# Altium footprint library rcl@1.PCBLIB: 487 footprints (part 4 of 31)
Each footprint in its own frame and in the unit in brackets; x right, y up, seen from the top. Pads: shape width x height; smd on the part's side, far side on the other; paste and mask are expansions set on the pad; w line width, h text height; cw(c..) or ccw(c..) is an arc to the next point about the centre after c.
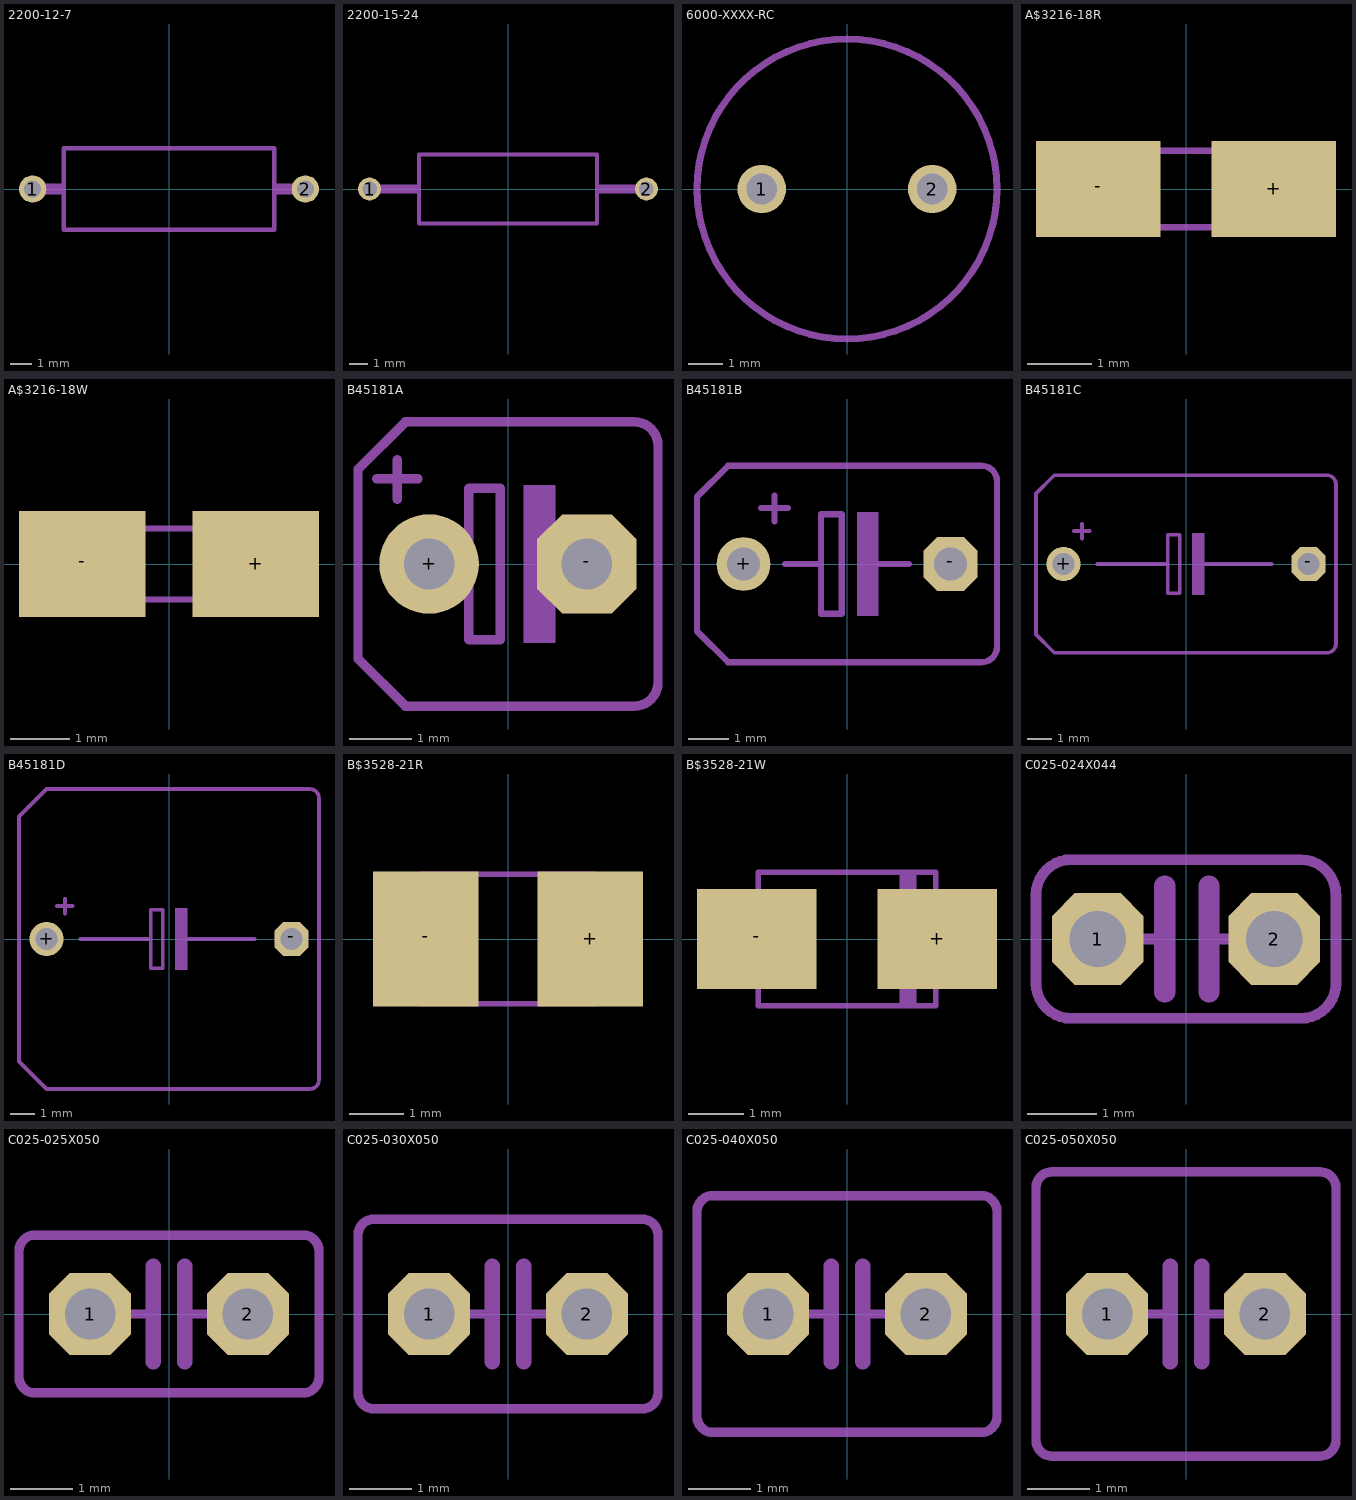
[diagram p3: the footprints below, top view; thin cyan lines are the x and y axes]

## 2200-12-7 [mil]
pads (2):
  round 50 hole 31.5: 1(-250,0) 2(250,0)
tDocu:
  lines w8: -192.91,-74.8 192.91,-74.8 192.91,74.8 -192.91,74.8 -192.91,-74.8
  lines w19.69: -250,0 -200,0 ; 200,0 250,0

## 2200-15-24 [mil]
pads (2):
  round 50 hole 31.5: 1(-300,0) 2(300,0)
tDocu:
  lines w8: -192.91,-74.8 192.91,-74.8 192.91,74.8 -192.91,74.8 -192.91,-74.8
  lines w19.69: -300,0 -200,0 ; 200,0 300,0

## 6000-XXXX-RC [mil]
pads (2):
  round 56 hole 35.43: 1(-98.43,0) 2(98.43,0)
tPlace:
  circle w8: c0,0 r173.23

## A$3216-18R [mil]
pads (2):
  rect 76.77x59.06 smd: +(54.13,0) -(-54.13,0)
tDocu:
  region: -62.99,-23.62 -62.99,23.62 -58.07,23.62 -58.07,-23.62
  region: 58.07,-23.62 58.07,23.62 62.99,23.62 62.99,-23.62
  region: 31.5,-24.61 31.5,24.61 43.31,24.61 43.31,-24.61
  lines w4: -57.09,-23.62 57.09,-23.62 57.09,23.62 -57.09,23.62 -57.09,-23.62

## A$3216-18W [mil]
pads (2):
  rect 84.65x70.87 smd: +(58.07,0) -(-58.07,0)
tDocu:
  region: -62.99,-23.62 -62.99,23.62 -58.07,23.62 -58.07,-23.62
  region: 58.07,-23.62 58.07,23.62 62.99,23.62 62.99,-23.62
  region: 31.5,-24.61 31.5,24.61 43.31,24.61 43.31,-24.61
  lines w4: -57.09,-23.62 57.09,-23.62 57.09,23.62 -57.09,23.62 -57.09,-23.62

## B45181A [mil]
pads (2):
  round 63 hole 32: +(-50,0)
  oct 63x63 / inner round 58.2 / far side oct 63x63 hole 32: -(50,0)
tDocu:
  region: 10,-50 10,50 30,50 30,-50
  lines w6: -65,0 -25,0 ; 25,0 65,0 ; -25,0 -25,-48 -5,-48 -5,48 -25,48 -25,0
tPlace:
  lines w6: -83,54 -57,54 ; -70,41 -70,66 ; -95,-60 -65,-90 80,-90 ccw(c80,-75) 95,-75 95,75 ccw(c80,75) 80,90 -65,90 -95,60 -95,-60

## B45181B [mil]
pads (2):
  round 52 hole 32: +(-100,0)
  oct 52x52 / inner round 48.04 / far side oct 52x52 hole 32: -(100,0)
tPlace:
  region: 10,-50 10,50 30,50 30,-50
  lines w6: -83,54 -57,54 ; -70,41 -70,66 ; -60,0 -25,0 ; 25,0 60,0 ; -25,0 -25,-48 -5,-48 -5,48 -25,48 -25,0 ; -145,-65 -115,-95 130,-95 ccw(c130,-80) 145,-80 145,80 ccw(c130,80) 130,95 -115,95 -145,65 -145,-65

## B45181C [mil]
pads (2):
  round 56 hole 36: +(-200,0)
  oct 56x56 / inner round 51.74 / far side oct 56x56 hole 36: -(200,0)
tPlace:
  region: 10,-50 10,50 30,50 30,-50
  lines w6: -183,54 -157,54 ; -170,41 -170,66 ; -145,0 -30,0 ; 25,0 140,0 ; -30,0 -30,-48 -10,-48 -10,48 -30,48 -30,0 ; -245,-115 -215,-145 230,-145 ccw(c230,-130) 245,-130 245,130 ccw(c230,130) 230,145 -215,145 -245,115 -245,-115

## B45181D [mil]
pads (2):
  round 56 hole 36: +(-200,0)
  oct 56x56 / inner round 51.74 / far side oct 56x56 hole 36: -(200,0)
tPlace:
  region: 10,-50 10,50 30,50 30,-50
  lines w6: -183,54 -157,54 ; -170,41 -170,66 ; -145,0 -30,0 ; 25,0 140,0 ; -30,0 -30,-48 -10,-48 -10,48 -30,48 -30,0 ; -245,-200 -200,-245 230,-245 ccw(c230,-230) 245,-230 245,230 ccw(c230,230) 230,245 -200,245 -245,200 -245,-200

## B$3528-21R [mm]
pads (2):
  rect 1.95x2.5 smd: +(1.525,0) -(-1.525,0)
tDocu:
  region: -1.75,-0.6 -1.75,0.6 -1.625,0.6 -1.625,-0.6
  region: 1.625,-0.6 1.625,0.6 1.75,0.6 1.75,-0.6
  region: 0.95,-1.225 0.95,1.225 1.25,1.225 1.25,-1.225
  lines w0.102: -1.6,-1.2 1.6,-1.2 1.6,1.2 -1.6,1.2 -1.6,-1.2

## B$3528-21W [mil]
pads (2):
  rect 84.65x70.87 smd: +(63.98,0) -(-63.98,0)
tDocu:
  region: -68.9,-23.62 -68.9,23.62 -63.98,23.62 -63.98,-23.62
  region: 63.98,-23.62 63.98,23.62 68.9,23.62 68.9,-23.62
  region: 37.4,-48.23 37.4,48.23 49.21,48.23 49.21,-48.23
  lines w4: -62.99,-47.24 62.99,-47.24 62.99,47.24 -62.99,47.24 -62.99,-47.24

## C025-024X044 [mil]
pads (2):
  oct 52x52 / inner round 48.04 / far side oct 52x52 hole 32: 1(-50,0) 2(50,0)
tDocu:
  lines w6: -50,0 -12,0 ; 13,0 50,0
tPlace:
  lines w6: -85,-25 -85,25 cw(c-65,25) -65,45 65,45 cw(c65,25) 85,25 85,-25 cw(c65,-25) 65,-45 -65,-45 cw(c-65,-25) -85,-25
  lines w12: -12,-30 -12,30 ; 13,-30 13,30

## C025-025X050 [mil]
pads (2):
  oct 52x52 / inner round 48.04 / far side oct 52x52 hole 32: 1(-50,0) 2(50,0)
tDocu:
  lines w6: -30,0 -15,0 ; 15,0 30,0
tPlace:
  lines w6: -15,0 -10,0 ; 10,0 15,0 ; -95,-40 -95,40 cw(c-85,40) -85,50 85,50 cw(c85,40) 95,40 95,-40 cw(c85,-40) 85,-50 -85,-50 cw(c-85,-40) -95,-40
  lines w10: -10,-30 -10,0 -10,30 ; 10,-30 10,0 10,30

## C025-030X050 [mil]
pads (2):
  oct 52x52 / inner round 48.04 / far side oct 52x52 hole 32: 1(-50,0) 2(50,0)
tDocu:
  lines w6: -30,0 -15,0 ; 15,0 30,0
tPlace:
  lines w6: -15,0 -10,0 ; 10,0 15,0 ; -95,-50 -95,50 cw(c-85,50) -85,60 85,60 cw(c85,50) 95,50 95,-50 cw(c85,-50) 85,-60 -85,-60 cw(c-85,-50) -95,-50
  lines w10: -10,-30 -10,0 -10,30 ; 10,-30 10,0 10,30

## C025-040X050 [mil]
pads (2):
  oct 52x52 / inner round 48.04 / far side oct 52x52 hole 32: 1(-50,0) 2(50,0)
tDocu:
  lines w6: -30,0 -15,0 ; 15,0 30,0
tPlace:
  lines w6: -15,0 -10,0 ; 10,0 15,0 ; -95,-65 -95,65 cw(c-85,65) -85,75 85,75 cw(c85,65) 95,65 95,-65 cw(c85,-65) 85,-75 -85,-75 cw(c-85,-65) -95,-65
  lines w10: -10,-30 -10,0 -10,30 ; 10,-30 10,0 10,30

## C025-050X050 [mil]
pads (2):
  oct 52x52 / inner round 48.04 / far side oct 52x52 hole 32: 1(-50,0) 2(50,0)
tDocu:
  lines w6: -30,0 -15,0 ; 15,0 30,0
tPlace:
  lines w6: -15,0 -10,0 ; 10,0 15,0 ; -95,-80 -95,80 cw(c-85,80) -85,90 85,90 cw(c85,80) 95,80 95,-80 cw(c85,-80) 85,-90 -85,-90 cw(c-85,-80) -95,-80
  lines w10: -10,-30 -10,0 -10,30 ; 10,-30 10,0 10,30